# Altium footprint library Generators.PcbLib: 3 footprints
Each footprint in its own frame and in the unit in brackets; x right, y up, seen from the top. Pads: shape width x height; smd on the part's side, far side on the other; paste and mask are expansions set on the pad; w line width, h text height; cw(c..) or ccw(c..) is an arc to the next point about the centre after c.
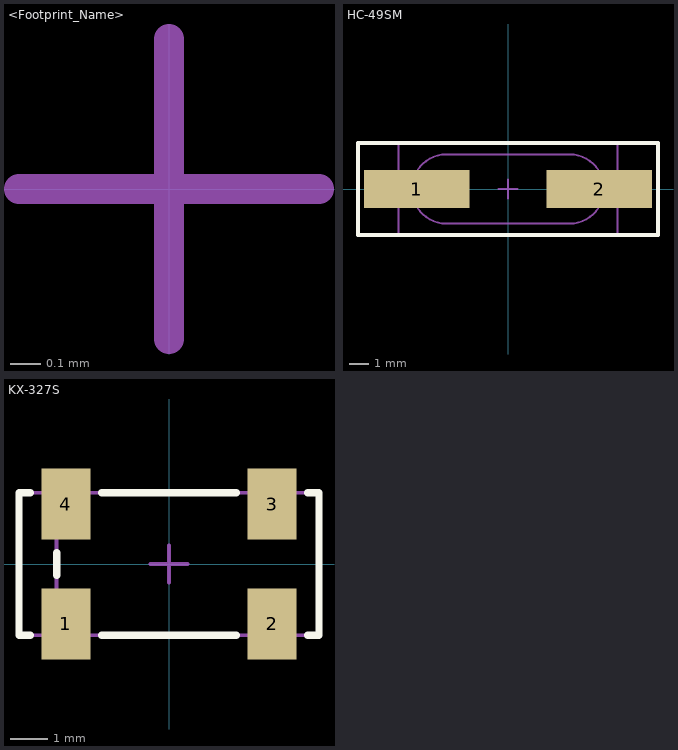
[diagram p0: the footprints below, top view; thin cyan lines are the x and y axes]

## <Footprint_Name> [mm] "<Package_Name>, <Number_of_pins>, <Pitch_in_mm>"
height 2.5
ReperDotTop:
  lines w0.1: -0.5,0 0.5,0 ; 0,-0.5 0,0.5
AssemblyOutlineTop:
  text "'.Designator'" at 0,0 h2.5

## HC-49SM [mm] "HC-49/SM Package"
height 2.5
pads (2):
  rect 5.5x2 smd: 1(-4.75,0) 2(4.75,0)
Top Overlay:
  lines w0.2: -7.8,-2.4 -7.8,2.4 7.8,2.4 7.8,-2.4 -7.8,-2.4
ReperDotTop:
  lines w0.1: -0.5,0 0.5,0 ; 0,-0.5 0,0.5
AssemblyOutlineTop:
  lines w0.1: -5.7,-2.4 5.7,-2.4 5.7,2.4 -5.7,2.4 -5.7,-2.4 ; -3.2,-1.8 cw(c-3.2,0) -3.2,1.8 3.2,1.8 cw(c3.2,0) 3.2,-1.8 -3.2,-1.8
  text "'.Designator'" at 0,0 h2.5
3D body "User Library-Crystal HC49_US-SM.step": height 4.35, standoff 0.05, extent -6.4,-2.415 6.4,2.415

## KX-327S [mm] "KX-327, 4 pin"
height 2.5
pads (4):
  rect 1.3x1.9 smd: 1(-2.75,-1.6) 2(2.75,-1.6) 3(2.75,1.6) 4(-2.75,1.6)
Top Overlay:
  lines w0.2: -3.7,-1.9 -4,-1.9 -4,1.9 -3.7,1.9 ; -3,-0.3 -3,0.3 ; -1.8,-1.9 1.8,-1.9 ; -1.8,1.9 1.8,1.9 ; 3.7,-1.9 4,-1.9 4,1.9 3.7,1.9
ReperDotTop:
  lines w0.1: -0.5,0 0.5,0 ; 0,-0.5 0,0.5
AssemblyOutlineTop:
  lines w0.1: -3,-1.9 -3,1.9 ; -4,-1.9 4,-1.9 4,1.9 -4,1.9 -4,-1.9
  text "'.Designator'" at 0,0 h2.5
3D body "User Library-KX-327S.step": height 2.55, standoff 0.05, extent -4,-1.85 4,1.85